# Altium schematic symbol library HIR204C.SchLib: 1 symbol
Pins are listed as number, name and electrical type; pins without a type are passive.

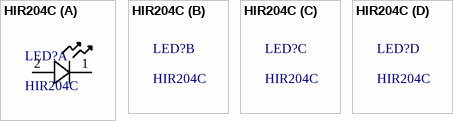
[diagram p0: symbol HIR204C]

## HIR204C
designator LED?
Description; Manufacturer_Name: Everlight; Type: LED Indication; Copyright: Copyright (C) 2025 Ultra Librarian. All rights reserved.; Manufacturer_Part_Number: HIR204C
footprint LED_RADIAL_HIR204C
part A pins: 1 CAHTODE, 2 ANODE